# Altium schematic symbol library RES,50R,1%,30W,Pulse,TO-220.Schlib: 1 symbol
Pins are listed as number, name and electrical type; pins without a type are passive.

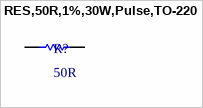
[diagram p0: symbol RES,50R,1%,30W,Pulse,TO-220]

## RES,50R,1%,30W,Pulse,TO-220
designator R?, comment 50R
Thick Film Resistors - Through Hole Pwr Resistor 1% 50 Ohms -55Cto150C
pins: 1, 2